# EAGLE library part 85504-5001 (library Molex-8550x-xxxx)
CONNECTOR, RJ45, JACK, 8P8C, 1PORT, CAT5
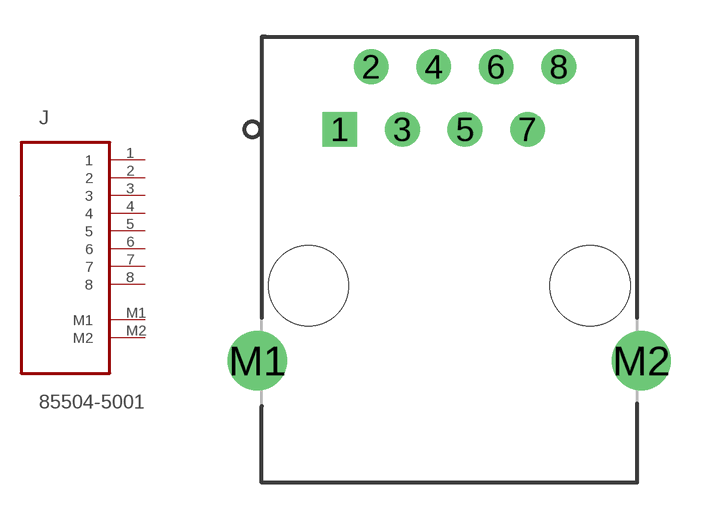
[diagram p0: symbol with the pads of MOLEX_85504-5001; footprint MOLEX_85504-5001]

Designator prefix J

## 85504-5001 (MPN: 85504-5001; OC_FARNELL: 2313732; OC_NEWARK: 96W3689; PACKAGE: RJ45, JACK, 8P8C; SUPPLIER: MOLEX)  [MOLEX_85504-5001]
1  1
2  2
3  3
4  4
5  5
6  6
7  7
8  8
M1  M1
M2  M2

## Footprint MOLEX_85504-5001 (pad centres in mm)
drill 0.9 square: 1 0,0
drill 0.9: 2 1.27,2.54; 3 2.54,0; 4 3.81,2.54; 5 5.08,0; 6 6.35,2.54; 7 7.62,0; 8 8.89,2.54
drill 1.6: M1 -3.35,-9.4; M2 12.24,-9.4
hole 3.25 at -1.27,-6.35
hole 3.25 at 10.16,-6.35